# Altium footprint library osc.PcbLib: 9 footprints
Each footprint in its own frame and in the unit in brackets; x right, y up, seen from the top. Pads: shape width x height; smd on the part's side, far side on the other; paste and mask are expansions set on the pad; w line width, h text height; cw(c..) or ccw(c..) is an arc to the next point about the centre after c.
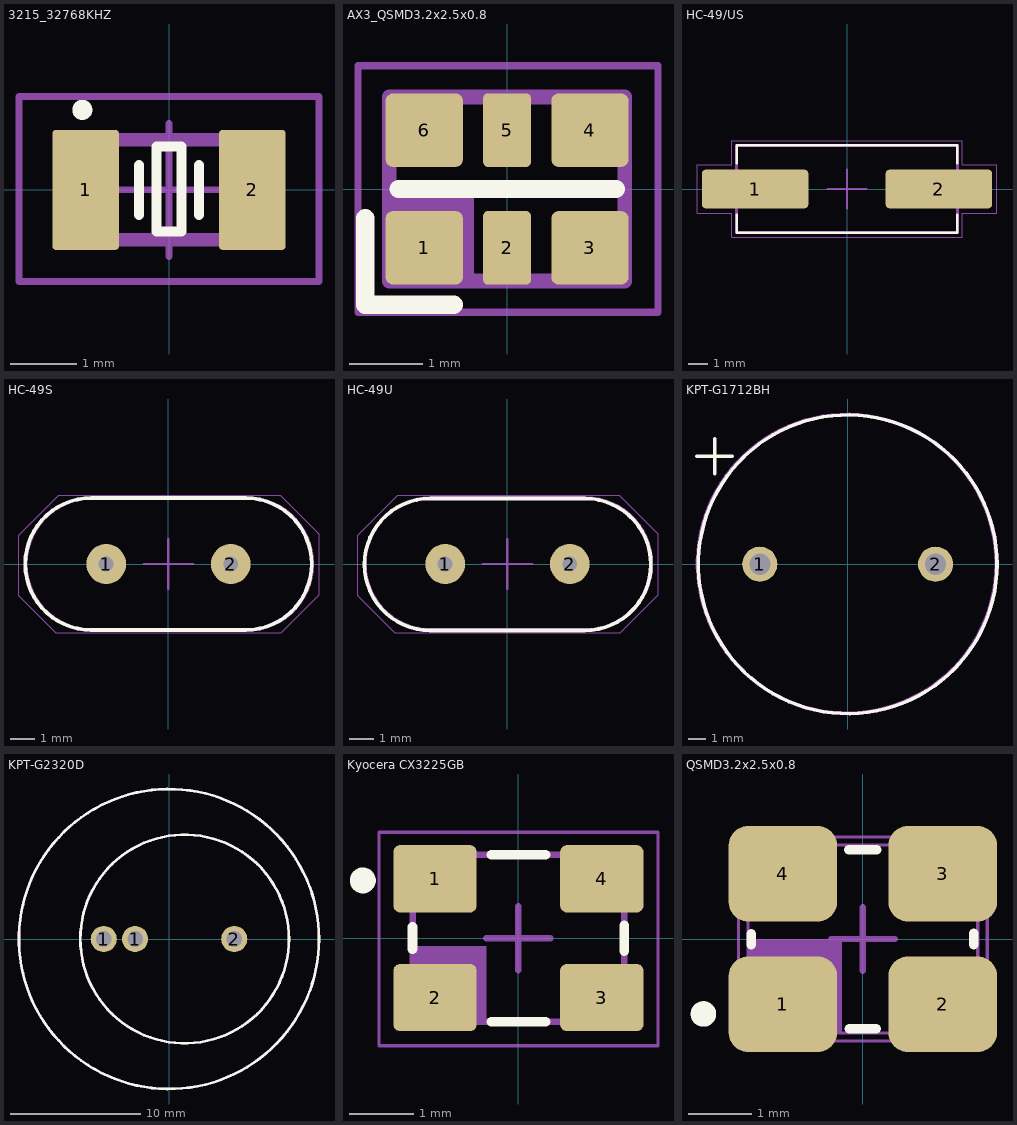
[diagram p0: the footprints below, top view; thin cyan lines are the x and y axes]

## 3215_32768KHZ [mm]
pads (2):
  rrect10% 1x1.8 smd: 1(-1.25,0) 2(1.25,0)
Top Overlay:
  lines w0.15: -0.45,-0.375 -0.45,0.375 ; 0.45,-0.375 0.45,0.375 ; -0.189,-0.622 -0.189,0.653 0.186,0.653 0.186,-0.622 -0.189,-0.622
  lines w0.2: -1.3,1.15 ccw(c-1.3,1.2) -1.3,1.25 ; -1.3,1.15 cw(c-1.3,1.2) -1.3,1.25 ; -1.3,1.15 ccw(c-1.3,1.2) -1.3,1.25
Top Designator:
  text ".Designator" at -3.149,1.825 h0.6
Top Assembly:
  lines w0.2: -1.6,-0.75 -1.6,0.75 1.6,0.75 1.6,-0.75 -1.6,-0.75
Top Courtyard:
  lines w0.1: -1,0 1,0 ; 0,-1 0,1 ; -2.25,-1.375 -2.25,1.4 2.25,1.4 2.25,-1.375 -2.25,-1.375
3D body "NX3215SA-32.768KHZ-EXS00A-MU00525.stp": height 0.8, standoff 0, extent -1.6,-0.75 1.6,0.75

## AX3_QSMD3.2x2.5x0.8 [mm]
pads (6):
  rrect20% 1.05x1 smd: 1(-1.125,-0.8) 3(1.125,-0.8) 4(1.125,0.8) 6(-1.125,0.8)
  rrect20% 0.65x1 smd: 2(0,-0.8) 5(0,0.8)
Top Overlay:
  lines w0.25: -1.925,-1.575 -1.925,-0.4 ; -1.9,-1.575 -0.725,-1.575 ; -1.475,0 1.475,0
Top Assembly:
  rectangle: -1.66,-1.295 -0.45,-0.075
  lines w0.2: -1.6,-1.25 1.6,-1.25 1.6,1.25 -1.6,1.25 -1.6,-1.25
Top Courtyard:
  lines w0.1: -2.025,-1.675 2.05,-1.675 2.05,1.675 -2.025,1.675 -2.025,-1.675
3D body "AX3PBF1-122.8800.stp": height 1, standoff 0, extent -1.6,-1.19 1.6,1.31

## HC-49/US [mm]
height 4.3
pads (2):
  rrect20% 5.5x2 smd: 1(-4.75,0) 2(4.75,0)
Top Overlay:
  lines w0.127: -5.7,-1.32 -5.7,-2.25 5.7,-2.25 5.7,-1.32 ; -5.7,1.32 -5.7,2.25 5.7,2.25 5.7,1.32
Top Designator:
  text ".Designator" at -2.999,3.05 h0.6
Top Assembly:
  lines w0.15: -5.7,-0.475 -6.325,-0.475 -6.325,0.475 -5.7,0.475 ; 5.7,-0.475 6.325,-0.475 6.325,0.475 5.7,0.475 ; -5.7,-2.25 -5.7,2.25 5.7,2.25 5.7,-2.25 -5.7,-2.25
Top Courtyard:
  lines w0.05: -7.75,-1.25 -5.95,-1.25 -5.95,-2.5 5.95,-2.5 5.95,-1.25 7.75,-1.25 7.75,1.25 5.95,1.25 5.95,2.5 -5.95,2.5 -5.95,1.25 -7.75,1.25 -7.75,-1.25
  lines w0.1: -1,0 1,0 ; 0,-1 0,1
3D body "step_temp.STEP": height 4.3, standoff 0, extent -6.35,-2.25 6.35,2.25

## HC-49S [mm] "HC49 Short Through-hole Mount Footprint"
height 5
pads (2):
  round 1.6 hole 0.6: 1(-2.5,0) 2(2.5,0)
Top Overlay:
  lines w0.15: -3.125,-2.65 3.1,-2.65 ccw(c3.1,0) 3.1,2.65 -3.1,2.65 ccw(c-3.1,0) -3.1,-2.65
Top Designator:
  text ".Designator" at -3.324,3.225 h0.6
Top Assembly:
  lines w0.15: -3.1,-2.65 3.125,-2.65 ccw(c3.125,0) 3.125,2.65 -3.075,2.65 ccw(c-3.075,0) -3.075,-2.65
Top Courtyard:
  lines w0.05: -6,-1.275 -6,1.15 -4.4,2.75 4.493,2.75 6.043,1.2 6.043,-1.232 4.525,-2.75 -4.525,-2.75 -6,-1.275
  lines w0.1: -1,0 1,0 ; 0,-1 0,1
3D body "User Library-HP49US.step": height 5, standoff -2.5, extent -5.675,-2.3 5.675,2.35

## HC-49U [mm] "HC49 Through-hole Mount Footprint"
height 5
pads (2):
  round 1.6 hole 0.6: 1(-2.5,0) 2(2.5,0)
Top Overlay:
  lines w0.15: -3.118,-2.668 3.107,-2.668 ccw(c3.107,-0.018) 3.107,2.632 -3.093,2.632 ccw(c-3.093,-0.018) -3.093,-2.668
Top Designator:
  text ".Designator" at -3.524,3.2 h0.6
Top Assembly:
  lines w0.15: -3.1,-2.65 3.125,-2.65 ccw(c3.125,0) 3.125,2.65 -3.075,2.65 ccw(c-3.075,0) -3.075,-2.65
Top Courtyard:
  lines w0.05: -6,-1.275 -4.525,-2.75 4.525,-2.75 6.043,-1.232 6.043,1.2 4.493,2.75 -4.4,2.75 -6,1.15 -6,-1.275
  lines w0.1: -1,0 1,0 ; 0,-1 0,1
3D body "User Library-HC49U-1.STEP": height 14, standoff -2.5, extent -5.49,-2.25 5.49,2.241

## KPT-G1712BH [mm] "Piezo Transducer KPT-G1712BH"
pads (2):
  round 2 hole 1.2: 1(-5,0) 2(5,0)
Top Overlay:
  circle w0.2: c0,0 r8.5
  lines w0.2: -8.575,6.15 -6.575,6.15 ; -7.575,5.15 -7.575,7.15
Bottom Dimensions:
  circle w0.2: c-0.05,0.025 r8.5
  text ".Designator" at -7.625,9.425 h1
Top Courtyard:
  circle w0.2: c0,0 r8.5
3D body "TP172009-1.step": height 9.81, standoff -2.99, extent -8.497,-8.5 8.497,8.5

## KPT-G2320D [mm] "Piezo Transducer KPT-G2320D"
pads (3):
  round 2 hole 1.2: 1(-5,0) 1(-2.6,0) 2(5,0)
Top Overlay:
  circle w0.2: c1.2,0 r8
  circle w0.2: c0,0 r11.5
Bottom Dimensions:
  circle w0.2: c1.2,0 r8
  circle w0.2: c0,0 r11.5
  text ".Designator" at -10.65,10.325 h1
Top Courtyard:
  circle w0.2: c1.2,0 r8
  circle w0.2: c0,0 r11.5
3D body "PKM22EPPH4001-B0--3DModel-STEP-56544.STEP": height 8.3, standoff -6.4, extent -11.025,-11.025 10.975,10.975

## Kyocera CX3225GB [mm] "Crystal, 4-Leads, Body 2.50x3.20mm, Pitch 2.20mm, IPC Medium Density"
height 0.6
pads (4):
  rrect20% 1.3x1.05 smd: 1(-1.3,0.925) 2(-1.3,-0.925) 3(1.3,-0.925) 4(1.3,0.925)
Top Overlay:
  circle w0.254: c-2.425,0.9 r0.075
  lines w0.15: -1.65,-0.175 -1.65,0.175 ; -0.425,-1.3 0.425,-1.3 ; -0.425,1.3 0.425,1.3 ; 1.65,-0.2 1.65,0.2
Top Designator:
  text ".Designator" at -3.124,2.275 h0.6
Top Assembly:
  rectangle: -1.635,-1.3 -0.5,-0.125
  lines w0.1: -1.65,-1.3 1.65,-1.3 1.65,1.3 -1.65,1.3 -1.65,-1.3
Top Courtyard:
  lines w0.05: -2.175,-1.675 2.175,-1.675 2.175,1.65 -2.175,1.65 -2.175,-1.675
  lines w0.1: -0.5,0 0.5,0 ; 0,-0.5 0,0.5
3D body "Kyocera CX3225GB.STEP": height 0.85, standoff 0, extent -1.61,-1.26 1.61,1.26

## QSMD3.2x2.5x0.8 [mm]
pads (4):
  rrect40% 1.7x1.5 smd: 1(-1.253,-1.022) 2(1.253,-1.022) 3(1.253,1.022) 4(-1.253,1.022)
Top Overlay:
  circle w0.2: c-2.5,-1.175 r0.1
  lines w0.15: -1.751,-0.088 -1.75,0.086 ; -0.219,1.398 0.219,1.399 ; -0.211,-1.406 0.213,-1.407 ; 1.736,0.091 1.737,-0.089
Top Designator:
  text ".Designator" at -2.999,2.3 h0.6
Top Assembly:
  rectangle: -1.785,-1.47 -0.325,0
  lines w0.05: -1.8,-1.475 -1.8,1.475 1.8,1.475 1.8,-1.475 -1.8,-1.475
Top Courtyard:
  lines w0.05: -1.95,-1.6 -1.95,1.6 1.95,1.6 1.95,-1.6 -1.95,-1.6
  lines w0.1: -0.5,0 0.5,0 ; 0,-0.5 0,0.5
3D body "User Library-3225-1.STEP": height 0.62, standoff 0.01, extent -1.6,-1.25 1.6,1.25